# Altium schematic symbol library PPS Lib.SchLib: 6 symbols
Pins are listed as number, name and electrical type; pins without a type are passive.

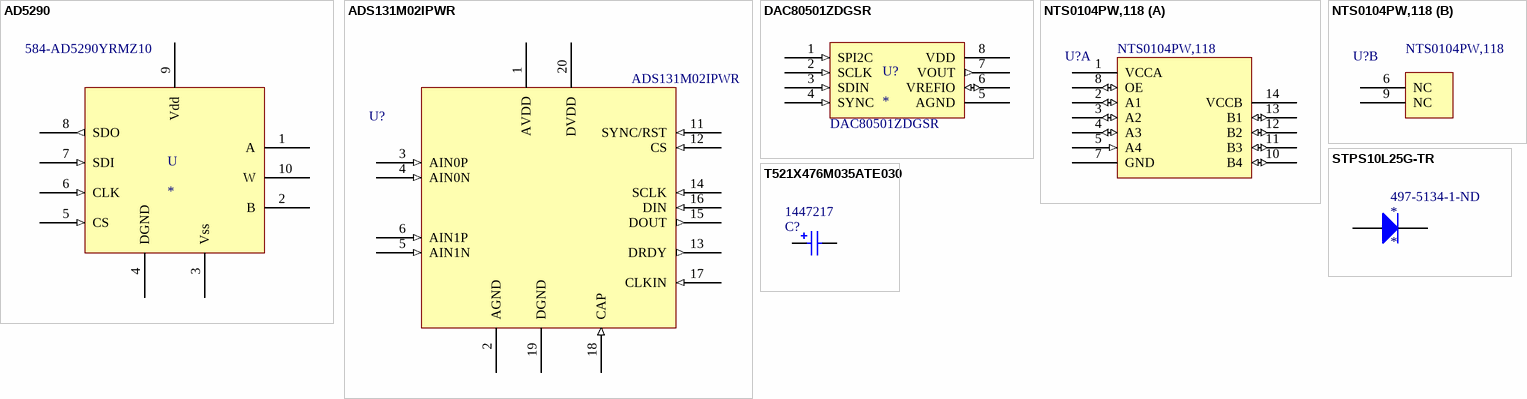
[diagram p0: symbols AD5290 to T521X476M035ATE030]

## AD5290
designator U  Supplier Part Number 1: 584-AD5290YRMZ10
DIGIPOT 8BIT 10K, SMD, 5290, MSOP10; Manufacturer: Analog Devices; Manufacturer Part Number: AD5290YRMZ10; Resistance: 10kR; Memory Type: Volatile; Number of Positions: 256; Min Supply Voltage: 20V; Max Supply Voltage: 30V; Interface: SPI; Number of Elements: 1; Tolerance: 30%; Nominal Supply Current: 15uA; Min Dual Supply Voltage: 10V; Max Dual Supply Voltage: 15V; Temperature Coefficient: 35ppm/°C; Frequency: 4MHz; -3db Bandwidth: 470Hz; Voltage: 35V; Supplier 1: Mouser; RoHS: Yes; Category: Digital Potentiometers; Stock 1: 49; Pricing 1: 1=5.81000, 10=4.94000, 50=4.79000, 100=4.27000, 1000=4.05000, 10000=4.05000 (USD); Mount: Surface Mount; Case/Package: MSOP; Number of Pins: 10; Contact Plating: Tin,Matte; Min Operating Temperature: -40°C; Max Operating Temperature: 125°C; Packaging: Rail/Tube; Package Quantity: 50; Series: -; Taper: Linear; Number of Circuits: 1; Number of Taps: 256; Operating Supply Current: 15uA; Max Supply Current: 15uA; Supply Current: 15uA; Resistance Tolerance: 30%; Length: 3mm; Width: 3mm; Height: 0.85mm; Radiation Hardening: No; Lead Free: Contains Lead; RoHS Compliant: Yes; REACH SVHC: No SVHC; ComponentLink1URL: https://datasheet.ciiva.com/1145/1519523-1145622.pdf?src-supplier=Element14; ComponentLink1Description: https://datasheet.ciiva.com/1145/1519523-1145622.pdf?src-supplier=Element14; ComponentLink2URL: https://datasheet.ciiva.com/16471/ad5290-16471686.pdf?src-supplier=Avnet+Asia; ComponentLink2Description: https://datasheet.ciiva.com/16471/ad5290-16471686.pdf?src-supplier=Avnet+Asia; ComponentLink3URL: https://datasheet.ciiva.com/1331/ad5290-1331012.pdf?src-supplier=Digi-Key; ComponentLink3Description: https://datasheet.ciiva.com/1331/ad5290-1331012.pdf?src-supplier=Digi-Key; ComponentLink4URL: https://datasheet.ciiva.com/25918/ad5290-25918522.pdf?src-supplier=Avnet+Europe; ComponentLink4Description: https://datasheet.ciiva.com/25918/ad5290-25918522.pdf?src-supplier=Avnet+Europe; ComponentLink5URL: https://datasheet.ciiva.com/3045/ad5290-3045389.pdf?src-supplier=Avnet; ComponentLink5Description: https://datasheet.ciiva.com/3045/ad5290-3045389.pdf?src-supplier=Avnet
footprint MSOP10
pins: 1 A, 2 B, 3 Vss (power), 4 DGND (power), 5 CS (in), 6 CLK (in), 7 SDI (in), 8 SDO (out), 9 Vdd (power), 10 W

## ADS131M02IPWR
designator U?  Manufacturer Part Number: ADS131M02IPWR
Digital to Analog Converter; Manufacturer: Texas Instruments; Supplier 1: Mouser; RoHS: No; Stock 1: 1885; Pricing 1: 1=3.34000, 10=3.01000, 50=2.84000, 100=2.46000, 1000=1.79000, 10000=1.66000 (USD)
footprint TSOP65P640X120-20N (TSOP, 20-Leads, Body 6.50x4.40mm, Pitch 0.65mm, IPC Medium Density)
pins: 1 AVDD (power), 2 AGND (power), 3 AIN0P (in), 4 AIN0N (in), 5 AIN1N (in), 6 AIN1P (in), 11 SYNC/RST (in), 12 CS (in), 13 DRDY (out), 14 SCLK (in), 15 DOUT (out), 16 DIN (in), 17 CLKIN (in), 18 CAP (in), 19 DGND (power), 20 DVDD (power)

## DAC80501ZDGSR
designator U?  Manufacturer Part Number: DAC80501ZDGSR
Manufacturer: Texas Instruments; Supplier 1: Digi-Key; RoHS: Yes; Stock 1: 1616; Pricing 1: 1=6.15000, 10=5.52700, 25=5.22560, 100=4.52880, 250=4.29656, 500=3.85528, 1000=3.83425 (USD); Supplier Part Number 1: 296-DAC80501ZDGSRCT-ND
footprint MSOP10; pin to pad 1>5 2>6 3>8 4>7 5>4 6>10 7>2 8>1
pins: 1 SPI2C (in), 2 SCLK (in), 3 SDIN (in), 4 SYNC (in), 5 AGND, 6 VREFIO (io), 7 VOUT (out), 8 VDD (power)

## NTS0104PW,118
designator U?  Manufacturer Part Number: NTS0104PW,118
Voltage Level Translator 14-Pin TSSOP T/R; Manufacturer: NXP Semiconductors; Max Supply Voltage: 5.5V; Min Supply Voltage: 1.65V; High Level Output Current: -20uA; Low Level Output Current: 1mA; Quiescent Current: 45uA; Propagation Delay: 280ns; Data Rate: 50Mbps; Number of Channels: 4; Max Power Dissipation: 250mW; Turn-On Delay Time: 5.8ns; Number of Elements: 1; Polarity: Non-Inverting; Operating Frequency-Max: 10MHz; Supplier 1: Digi-Key; RoHS: Yes; Category: Voltage Level Shifters; Stock 1: 15992; Pricing 1: 1=0.89000, 10=0.79100, 25=0.75120, 100=0.72820 (USD); Mount: Surface Mount; Case/Package: TSSOP; Number of Pins: 14; Min Operating Temperature: -40°C; Max Operating Temperature: 125°C; Logic Function: Translator; Packaging: Tape and Reel; Package Quantity: 1; Number of Bits: 4; Output Type: Voltage; Series: -; Radiation Hardening: No; RoHS Compliant: Yes; Lead Free: Lead Free; ComponentLink1URL: https://datasheet.ciiva.com/15096/getdatasheetpartid-507519-15096327.pdf?src-supplier=Verical; ComponentLink1Description: https://datasheet.ciiva.com/15096/getdatasheetpartid-507519-15096327.pdf?src-supplier=Verical; ComponentLink2URL: https://datasheet.ciiva.com/1899/nts0104-1899064.pdf?src-supplier=Digi-Key; ComponentLink2Description: https://datasheet.ciiva.com/1899/nts0104-1899064.pdf?src-supplier=Digi-Key; ComponentLink3URL: https://datasheet.ciiva.com/1899/nts0104-1899065.pdf?src-supplier=Digi-Key; ComponentLink3Description: https://datasheet.ciiva.com/1899/nts0104-1899065.pdf?src-supplier=Digi-Key; ComponentLink4URL: https://datasheet.ciiva.com/1899/nts0104-1899066.pdf?src-supplier=Digi-Key; ComponentLink4Description: https://datasheet.ciiva.com/1899/nts0104-1899066.pdf?src-supplier=Digi-Key; ComponentLink5URL: https://datasheet.ciiva.com/8244/nts0104-8244175.pdf?src-supplier=Avnet; ComponentLink5Description: https://datasheet.ciiva.com/8244/nts0104-8244175.pdf?src-supplier=Avnet
footprint TSOP65P640X110-14N (TSOP, 14-Leads, Body 5.00x4.40mm, Pitch 0.65mm, IPC Medium Density)
part A pins: 1 VCCA (power), 2 A1 (io), 3 A2 (io), 4 A3 (io), 5 A4 (in), 7 GND (power), 8 OE (io), 10 B4 (io), 11 B3 (io), 12 B2 (io), 13 B1 (io), 14 VCCB (power)
part B pins: 6 NC, 9 NC

## STPS10L25G-TR
designator *  Supplier Part Number 1: 497-5134-1-ND
STMICROELECTRONICS   STPS10L25G-TR   DIODE, SCHOTTKY, 10A, 25V, DPAK; Max Reverse Current: 800uA; Peak Non-Repetitive Surge Current: 200A; Element Configuration: Single; Forward Voltage: 550mV; Polarity: Standard; Supplier 1: Digi-Key; Manufacturer: STMicroelectronics; Manufacturer Part Number: STPS10L25G-TR; RoHS: Yes; Category: Rectifier Diodes; Stock 1: 1023; Pricing 1: 1=2.11000, 10=1.89200, 100=1.52080, 500=1.24952 (USD); Mount: Surface Mount; Case/Package: D2PAK; Number of Pins: 3; Min Operating Temperature: -65°C; Max Operating Temperature: 150°C; Forward Current: 10A; Max Repetitive Reverse Voltage (Vrrm): 25V; Max Surge Current: 200A; Package Quantity: 1; Packaging: Tape and Reel; Max Reverse Leakage Current: 800uA; Average Rectified Current: 10A; Max Forward Surge Current (Ifsm): 200A; Voltage Rating (DC): 25V; Current Rating: 10A; Output Current: 10A; Max Reverse Voltage (DC): 25V; Series: -; Radiation Hardening: No; REACH SVHC: No SVHC; Lead Free: Lead Free; RoHS Compliant: Yes; ComponentLink1URL: https://datasheet.ciiva.com/916/cd00000842-916425.pdf?src-supplier=Digi-Key; ComponentLink1Description: https://datasheet.ciiva.com/916/cd00000842-916425.pdf?src-supplier=Digi-Key; ComponentLink2URL: https://datasheet.ciiva.com/916/cd00000842-916426.pdf?src-supplier=Digi-Key; ComponentLink2Description: https://datasheet.ciiva.com/916/cd00000842-916426.pdf?src-supplier=Digi-Key; ComponentLink3URL: https://datasheet.ciiva.com/916/cd00000842-916427.pdf?src-supplier=Digi-Key; ComponentLink3Description: https://datasheet.ciiva.com/916/cd00000842-916427.pdf?src-supplier=Digi-Key; ComponentLink4URL: https://datasheet.ciiva.com/16289/cd00000842-16289051.pdf?src-supplier=Future+Electronics; ComponentLink4Description: https://datasheet.ciiva.com/16289/cd00000842-16289051.pdf?src-supplier=Future+Electronics
footprint D2PAK (DPAK, 3-Leads, Body 9.97x9.145mm, Pitch 2.54mm); pin to pad 1>3 2>4
pins: 1 A, 2 K

## T521X476M035ATE030
designator C?  Supplier Part Number 1: 1447217
KEMET - T521X476M035ATE030 - CAP, TANT, POLYMER, 47UF, 35V, CASE X; Tolerance: 20%; ESR (Equivalent Series Resistance): 30mR; Polarity: Polar; Life (Hours): 2000Hour; Dissipation Factor: 10%; Supplier 1: RSComponents; Manufacturer: KEMET; Manufacturer Part Number: T521X476M035ATE030; RoHS: Yes; Category: Polymer Capacitors; Stock 1: 1; Pricing 1: 500=2.79100, 1500=2.59300 (USD); Mount: Surface Mount; Case/Package: 2917; Number of Pins: 2; Case Code (Imperial): 2917; Case Code (Metric): 7343; Min Operating Temperature: -55°C; Max Operating Temperature: 125°C; Capacitance: 47uF; Voltage Rating: 35V; Packaging: Tape and Reel; Package Quantity: 1; Voltage Rating (DC): 35V; Termination: SMD/SMT; Features: General Purpose; Series: KO-CAP T521; Construction: Flat; Length: 7.3mm; Width: 4.3mm; Height: 4mm; Height - Seated (Max): 0.169inch; Depth: 4.3mm; RoHS Compliant: Yes; REACH SVHC: No SVHC; ComponentLink1URL: https://datasheet.ciiva.com/7759/1056102-7759041.pdf?src-supplier=Element14; ComponentLink1Description: https://datasheet.ciiva.com/7759/1056102-7759041.pdf?src-supplier=Element14; ComponentLink2URL: https://datasheet.ciiva.com/262/kem-t2016-t521-262925.pdf?src-supplier=Digi-Key; ComponentLink2Description: https://datasheet.ciiva.com/262/kem-t2016-t521-262925.pdf?src-supplier=Digi-Key; ComponentLink3URL: https://datasheet.ciiva.com/262/kem-t2016-t521-262927.pdf?src-supplier=Digi-Key; ComponentLink3Description: https://datasheet.ciiva.com/262/kem-t2016-t521-262927.pdf?src-supplier=Digi-Key; ComponentLink4URL: https://datasheet.ciiva.com/22698/1899432-22698968.pdf?src-supplier=Element14; ComponentLink4Description: https://datasheet.ciiva.com/22698/1899432-22698968.pdf?src-supplier=Element14; ComponentLink5URL: https://datasheet.ciiva.com/262/kem-t2016-t521-262926.pdf?src-supplier=Digi-Key; ComponentLink5Description: https://datasheet.ciiva.com/262/kem-t2016-t521-262926.pdf?src-supplier=Digi-Key
footprint 7343; pin to pad 1>2 2>1
pins: 1, 2